# Altium schematic symbol library OP_AMP.SchLib: 3 symbols
Pins are listed as number, name and electrical type; pins without a type are passive.

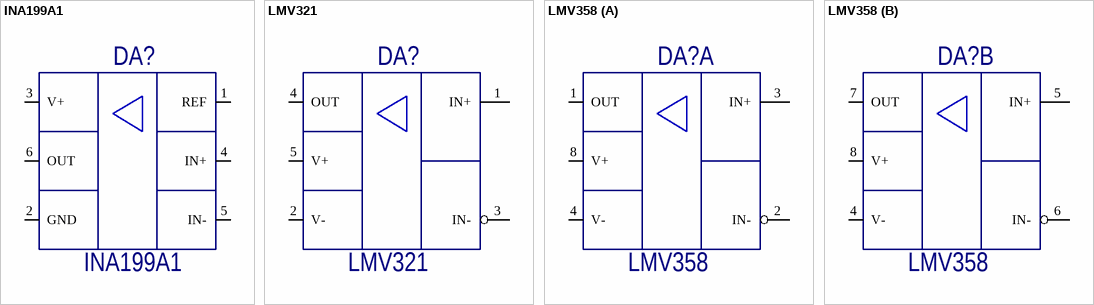
[diagram p0: symbols INA199A1 to LMV358]

## INA199A1
designator DA?
ComponentDescription: INA199A1DCKR; ComponentType: DCKR
footprint SOTFL65P210X110-6N (SOTFL, 6-Leads, Body 2,00x2,10mm, Pitch 0,65mm, IPC Medium Density)
pins: 1 REF, 2 GND, 3 V+, 4 IN+, 5 IN-, 6 OUT

## LMV321
designator DA?
Value: LMV321; ComponentDescription: =Comment + ComponentType; ComponentType: DBV
footprint SOT95P230X110-5N (SOT23, 5-Leads, Body 2,90x2,30mm, Pitch 0,95mm, IPC Medium Density)
pins: 1 IN+, 2 V- (power), 3 IN-, 4 OUT (power), 5 V+ (power)

## LMV358
designator DA?
Value: LMV358; ComponentDescription: =Comment + ComponentType; ComponentType: ID
footprint SOIC127P600X175-8N (SOIC, 8-Leads, Body 4,90x3,90mm, Pitch 1,27mm, IPC Medium Density)
part A pins: 1 OUT, 2 IN-, 3 IN+, 4 V- (power), 8 V+ (power)
part B pins: 4 V- (power), 5 IN+, 6 IN-, 7 OUT, 8 V+ (power)